# EAGLE library part 6X2SMD (library smd_connect)
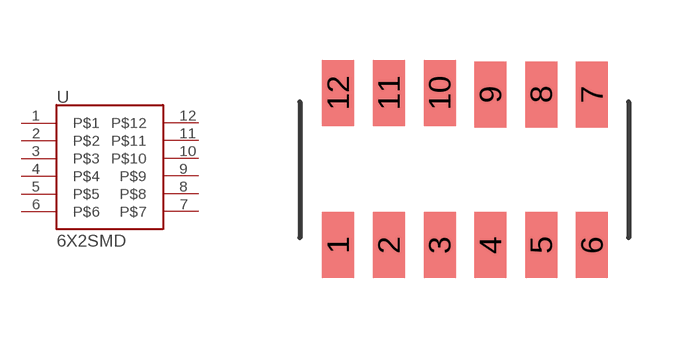
[diagram p0: symbol with the pads of 6X2_SMD; footprint 6X2_SMD]

Designator prefix -

## 6X2SMD  [6X2_SMD]
1  P$1
2  P$2
3  P$3
4  P$4
5  P$5
6  P$6
7  P$7
8  P$8
9  P$9
10  P$10
11  P$11
12  P$12

## Footprint 6X2_SMD (pad centres in mm)
smd 0.8 x 1.65: 1 -2.54,-1.885; 2 -1.27,-1.885; 3 0,-1.885; 4 1.27,-1.885; 5 2.54,-1.885; 6 3.81,-1.885; 7 3.81,1.885; 8 2.54,1.885; 9 1.27,1.885; 10 0,1.925; 11 -1.27,1.925; 12 -2.54,1.925